# Altium integrated library ALTIUM-WE-CMS-rev16a.IntLib: 2 symbols
Pins are listed as number, name and electrical type; pins without a type are passive.

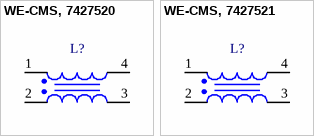
[diagram p0: symbols WE-CMS, 7427520 to WE-CMS, 7427521]

## WE-CMS, 7427520
designator L?, comment 25Ω@25MHz, 30Ω@100MHz  (value not drawn)
WE-CMS Common Mode SMD Bead; PartNumber: 7427520; PublishedDate: Aug 2016; Publisher: Wurth Elektronik; ComponentLink1Description: Manufacturer; ComponentLink1URL: http://www.we-online.de; ComponentLink2Description: Datasheet; ComponentLink2URL: http://katalog.we-online.de/pbs/datasheet/7427520.pdf; Value: 25Ω@25MHz, 30Ω@100MHz
footprint WE-CMS_7427520 (Common Mode SMD Bead)
pins: 1, 2, 3, 4

## WE-CMS, 7427521
designator L?, comment 34Ω@25MHz, 52Ω@100MHz  (value not drawn)
WE-CMS Common Mode SMD Bead; PartNumber: 7427521; PublishedDate: Aug 2016; Publisher: Wurth Elektronik; ComponentLink1Description: Manufacturer; ComponentLink1URL: http://www.we-online.de; ComponentLink2Description: Datasheet; ComponentLink2URL: http://katalog.we-online.de/pbs/datasheet/7427521.pdf; Value: 34Ω@25MHz, 52Ω@100MHz
footprint WE-CMS_7427521 (Common Mode SMD Bead)
pins: 1, 2, 3, 4